# Altium footprint library CONN IPL1-106-02-X-D.PcbLib: 1 footprints
Each footprint in its own frame and in the unit in brackets; x right, y up, seen from the top. Pads: shape width x height; smd on the part's side, far side on the other; paste and mask are expansions set on the pad; w line width, h text height; cw(c..) or ccw(c..) is an arc to the next point about the centre after c.
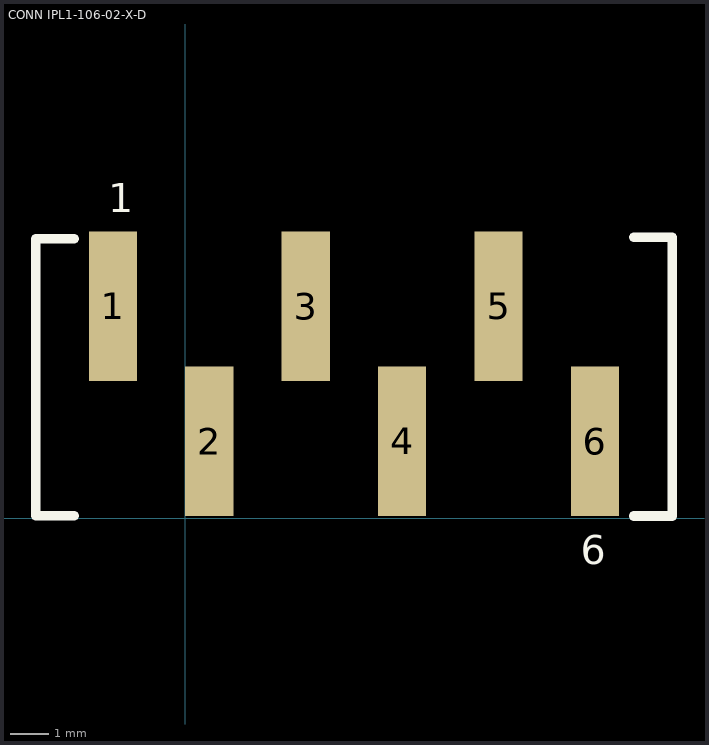
[diagram p0: the footprint, top view; thin cyan lines are the x and y axes]

## CONN IPL1-106-02-X-D [mil]
pads (6):
  rect 50x155 smd: 1(-75,220) 2(25,80) 3(125,220) 4(225,80) 5(325,220) 6(425,80)
Top Overlay:
  lines w10: -154.93,288.38 -154.93,2.48 -114.93,2.48 ; -154.93,290 -114.93,290 ; 465.07,2.32 505.07,2.32 505.07,291.49 465.07,291.49
  text "6" at 410.07,-47.9 h30
  text "1" at -79.93,317.1 h30
3D body: height 345, standoff 0, extent -154.93,2.48 505.07,290.98